# EAGLE library part ADE7763 (library analog-devices)
Single-Phase Active and Apparent Energy Metering IC
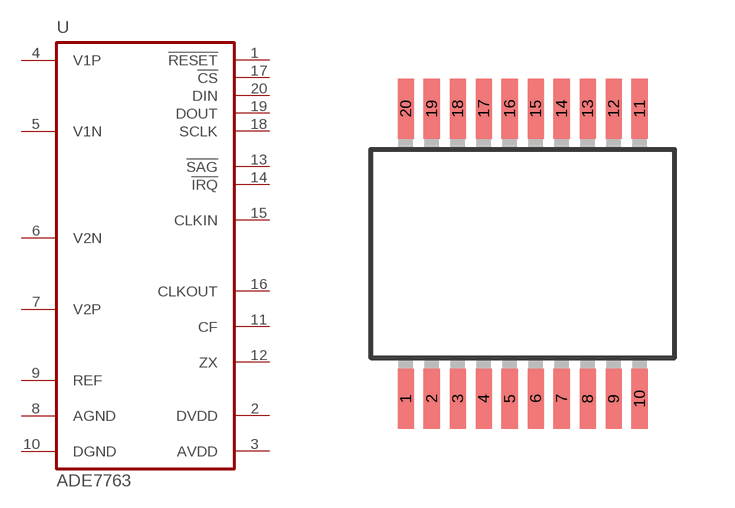
[diagram p58: symbol with the pads of SSOP20; footprint SSOP20]

Designator prefix U

## ADE7763 (P1I: o)  [SSOP20]
1  !RESET!  in
2  DVDD  pwr
3  AVDD  pwr
4  V1P  in
5  V1N  in
6  V2N  in
7  V2P  in
8  AGND  pwr
9  REF  in
10  DGND  pwr
11  CF  out
12  ZX  out
13  !SAG!  oc
14  !IRQ!  oc
15  CLKIN  in
16  CLKOUT  out
17  !CS!  in
18  SCLK  in
19  DOUT
20  DIN  in

## Footprint SSOP20 (pad centres in mm)
Shrink Small Outline Package package type RS-20
smd 0.4 x 1.5: 1 -2.925,-3.625; 2 -2.275,-3.625; 3 -1.625,-3.625; 4 -0.975,-3.625; 5 -0.325,-3.625; 6 0.325,-3.625; 7 0.975,-3.625; 8 1.625,-3.625; 9 2.275,-3.625; 10 2.925,-3.625; 11 2.925,3.625; 12 2.275,3.625; 13 1.625,3.625; 14 0.975,3.625; 15 0.325,3.625; 16 -0.325,3.625; 17 -0.975,3.625; 18 -1.625,3.625; 19 -2.275,3.625; 20 -2.925,3.625